# EAGLE library part TL1963ADCQR (library EagleParts)
IC, LDO REG, ADJ, 1.5A, 6-SOT-223
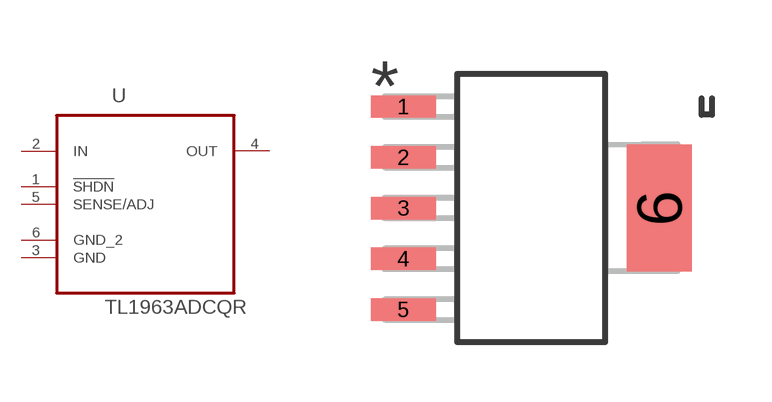
[diagram p8: symbol with the pads of SOT127P700X180-6N; footprint SOT127P700X180-6N]

Designator prefix U

## TL1963ADCQR (MPN: TL1963ADCQR; OC_FARNELL: 2323630; OC_NEWARK: 94T5084; PACKAGE: 6-SOT-223; SUPPLIER: TEXAS INSTRUMENTS)  [SOT127P700X180-6N]
1  !SHDN  in
2  IN  in
3  GND  pas
4  OUT  out
5  SENSE/ADJ  in
6  GND_2  in

## Footprint SOT127P700X180-6N (pad centres in mm)
smd 1.626 x 0.559: 1 -3.2,2.54; 2 -3.2,1.27; 3 -3.2,0; 4 -3.2,-1.27; 5 -3.2,-2.54
smd 1.626 x 3.175: 6 3.2,0